# Altium footprint library HFBR1523Z.PcbLib: 1 footprints
Each footprint in its own frame and in the unit in brackets; x right, y up, seen from the top. Pads: shape width x height; smd on the part's side, far side on the other; paste and mask are expansions set on the pad; w line width, h text height; cw(c..) or ccw(c..) is an arc to the next point about the centre after c.
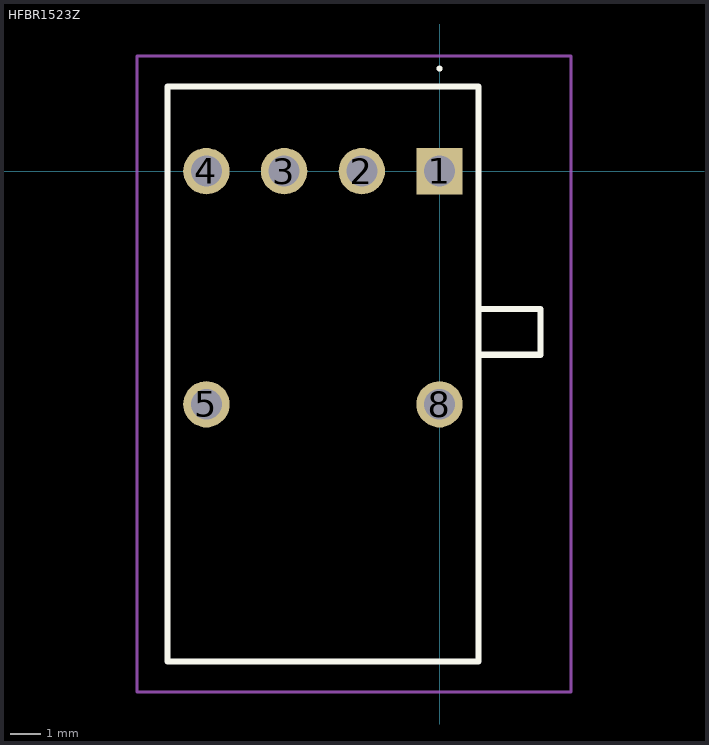
[diagram p0: the footprint, top view; thin cyan lines are the x and y axes]

## HFBR1523Z [mm]
pads (6):
  rect 1.515x1.515 hole 1.01: 1(0,0)
  round 1.515 hole 1.01: 2(-2.54,0) 3(-5.08,0) 4(-7.62,0) 5(-7.62,-7.62) 8(0,-7.62)
Top Overlay:
  lines w0.1: 0,3.3 ccw(c0,3.35) 0,3.4 ccw(c0,3.35) 0,3.3
  lines w0.2: -8.89,-16.03 -8.89,2.77 1.27,2.77 1.27,-16.03 -8.89,-16.03 ; 1.27,-6 1.27,-4.5 3.3,-4.5 3.3,-6 1.27,-6
Mechanical 15:
  lines w0.1: -8.89,-16.03 -8.89,2.77 1.27,2.77 1.27,-16.03 -8.89,-16.03
Mechanical 20:
  lines w0.1: -9.89,-17.03 -9.89,3.77 4.3,3.77 4.3,-17.03 -9.89,-17.03
3D body "HFBR-1523Z.stp": height 8.22, standoff -2.96, extent -8.876,-16.005 3.314,2.796